# EAGLE library part AT49BV642D (library memory-atmel)
FLASH MEMORY 64 Mega Bit (4M x 16)
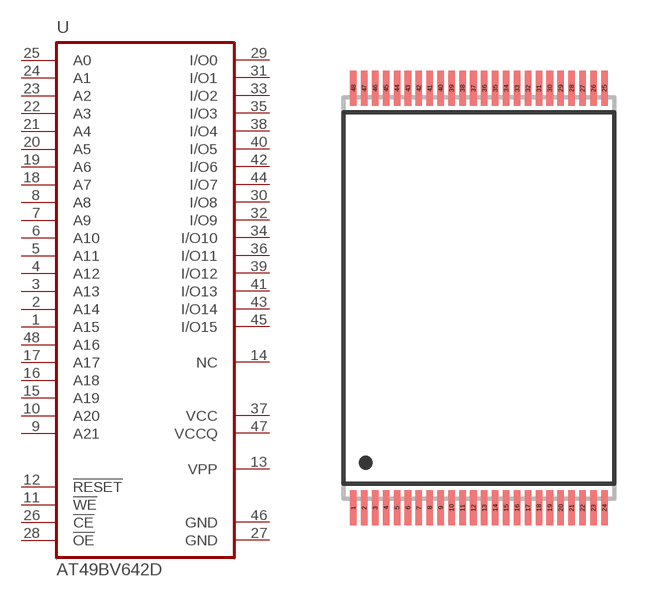
[diagram p15: symbol with the pads of TSOP48T; footprint TSOP48T]

Designator prefix U

## AT49BV642D  [TSOP48T]
1  A15  in
2  A14  in
3  A13  in
4  A12  in
5  A11  in
6  A10  in
7  A9  in
8  A8  in
9  A21  in
10  A20  in
11  !WE!  in
12  !RESET!  in
13  VPP
14  NC
15  A19  in
16  A18  in
17  A17  in
18  A7  in
19  A6  in
20  A5  in
21  A4  in
22  A3  in
23  A2  in
24  A1  in
25  A0  in
26  !CE!  in
27  GND
28  !OE!  in
29  I/O0
30  I/O8
31  I/O1
32  I/O9
33  I/O2
34  I/O10
35  I/O3
36  I/O11
37  VCC
38  I/O4
39  I/O12
40  I/O5
41  I/O13
42  I/O6
43  I/O14
44  I/O7
45  I/O15
46  GND  in
47  VCCQ
48  A16  in

## Footprint TSOP48T (pad centres in mm)
TSOP48 body 12 x 20 mm, pitch 0.5 mm, Type I (TSOP)
smd 0.3 x 1.6: 1 -5.75,-9.6; 2 -5.25,-9.6; 3 -4.75,-9.6; 4 -4.25,-9.6; 5 -3.75,-9.6; 6 -3.25,-9.6; 7 -2.75,-9.6; 8 -2.25,-9.6; 9 -1.75,-9.6; 10 -1.25,-9.6; 11 -0.75,-9.6; 12 -0.25,-9.6; 13 0.25,-9.6; 14 0.75,-9.6; 15 1.25,-9.6; 16 1.75,-9.6; 17 2.25,-9.6; 18 2.75,-9.6; 19 3.25,-9.6; 20 3.75,-9.6; 21 4.25,-9.6; 22 4.75,-9.6; 23 5.25,-9.6; 24 5.75,-9.6; 25 5.75,9.6; 26 5.25,9.6; 27 4.75,9.6; 28 4.25,9.6; 29 3.75,9.6; 30 3.25,9.6; 31 2.75,9.6; 32 2.25,9.6; 33 1.75,9.6; 34 1.25,9.6; 35 0.75,9.6; 36 0.25,9.6; 37 -0.25,9.6; 38 -0.75,9.6; 39 -1.25,9.6; 40 -1.75,9.6; 41 -2.25,9.6; 42 -2.75,9.6; 43 -3.25,9.6; 44 -3.75,9.6; 45 -4.25,9.6; 46 -4.75,9.6; 47 -5.25,9.6; 48 -5.75,9.6